# Altium footprint library switch3.PcbLib: 1 footprints
Each footprint in its own frame and in the unit in brackets; x right, y up, seen from the top. Pads: shape width x height; smd on the part's side, far side on the other; paste and mask are expansions set on the pad; w line width, h text height; cw(c..) or ccw(c..) is an arc to the next point about the centre after c.
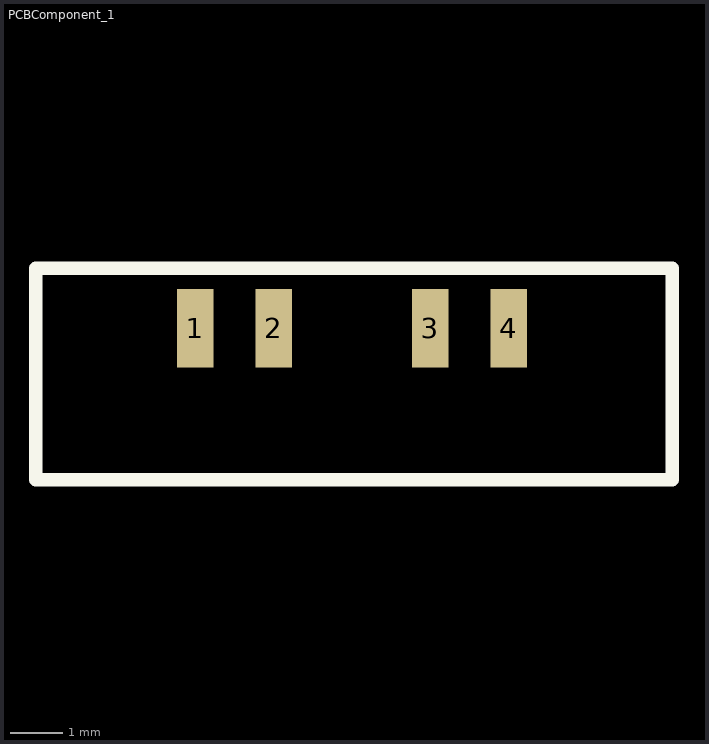
[diagram p0: the footprint, top view; thin cyan lines are the x and y axes]

## PCBComponent_1 [mm]
pads (10):
  rect 0.7x1.5 smd: 1(-684.454,-838.403) 2(-682.955,-838.403) 3(-679.958,-838.403) 4(-678.459,-838.403)
  round 0.9 on Top Solder: 8(-683.971,-840.054) 9(-678.942,-840.054)
  rect 1x0.8 on Top Paste: MP1(-686.587,-839.089) MP2(-686.587,-840.537) MP3(-676.25,-839.089) MP4(-676.25,-840.537)
Top Overlay:
  lines w0.254: -687.502,-841.299 -675.335,-841.299 -675.335,-837.26 -687.502,-837.26 -687.502,-841.299